# Altium footprint library PCB1.PcbLib: 58 footprints (part 2 of 4)
Each footprint in its own frame and in the unit in brackets; x right, y up, seen from the top. Pads: shape width x height; smd on the part's side, far side on the other; paste and mask are expansions set on the pad; w line width, h text height; cw(c..) or ccw(c..) is an arc to the next point about the centre after c.
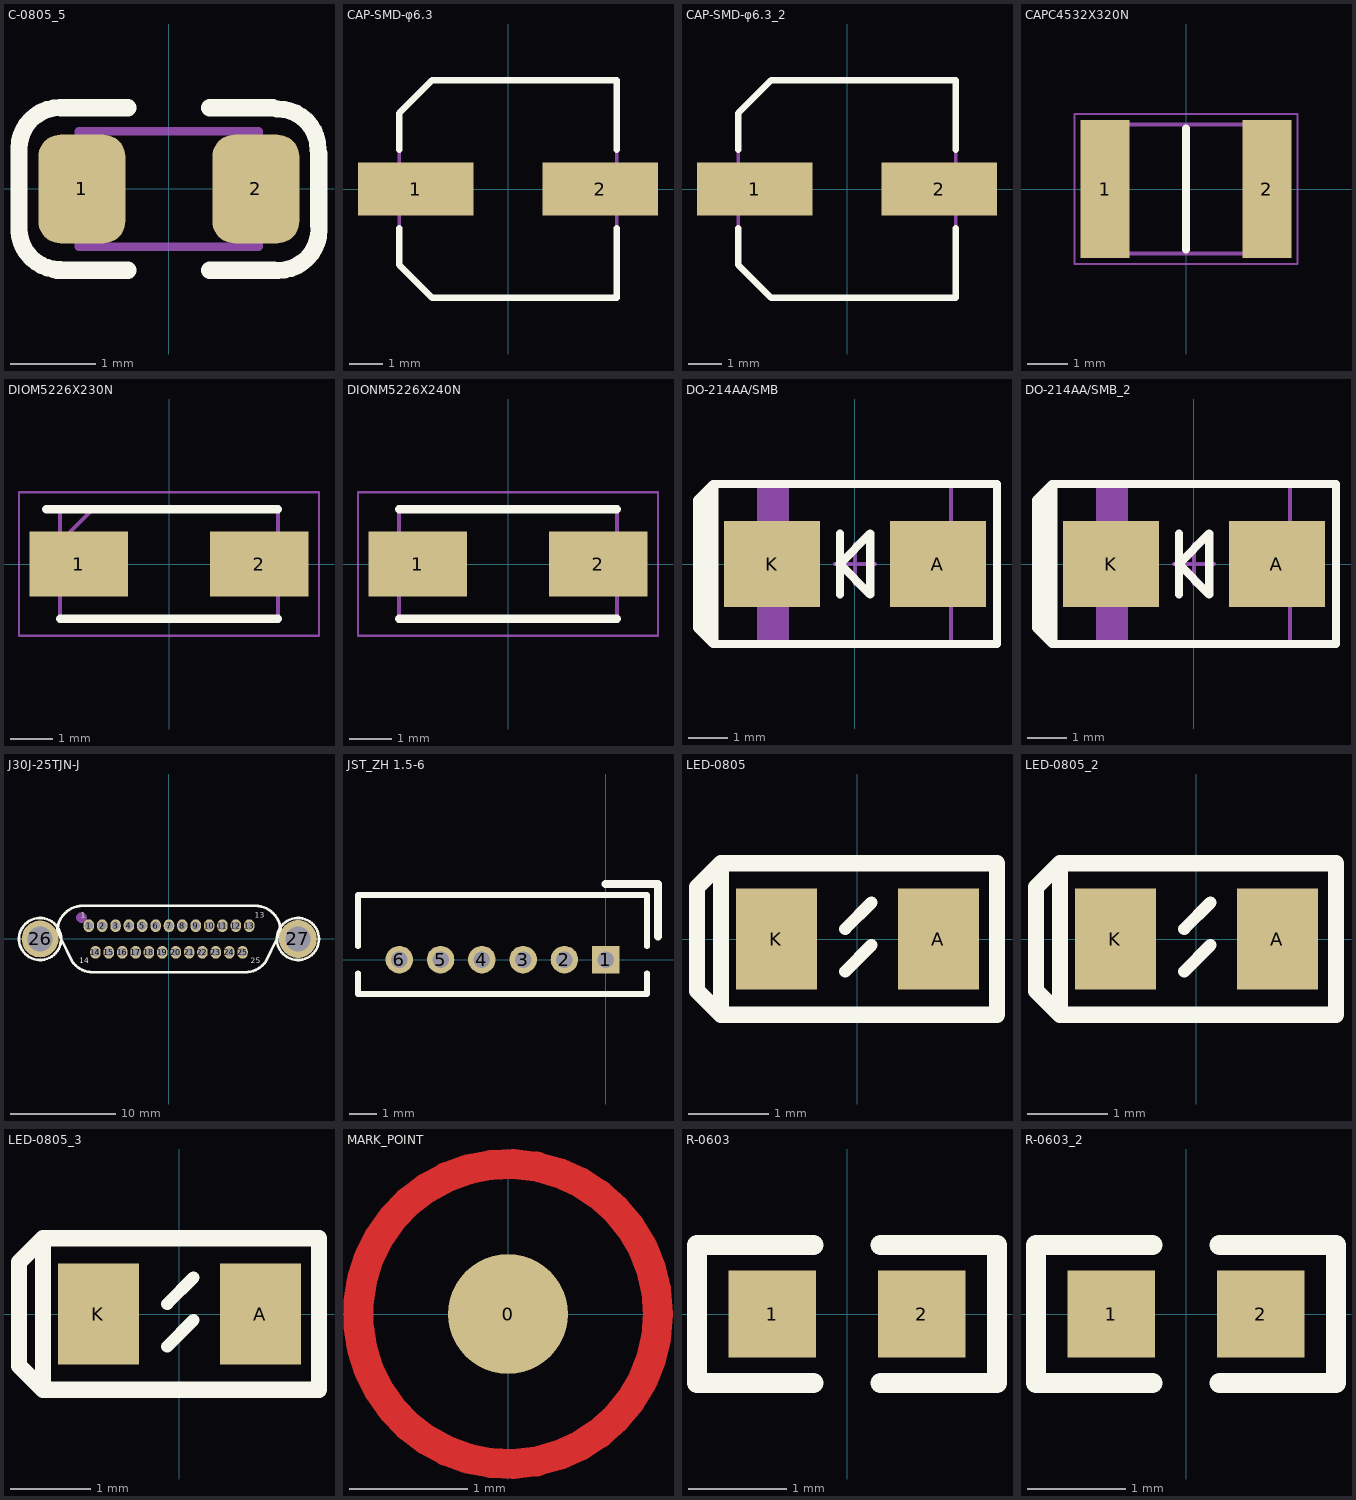
[diagram p1: the footprints below, top view; thin cyan lines are the x and y axes]

## C-0805_5 [mil]
pads (2):
  rrect50% 40x50 smd: 1(-40,0) 2(40,0)
Top Overlay:
  lines w7.87: -68.91,18.62 cw(c-50.12,18.62) -50.12,37.41 ; -68.87,-18.33 ccw(c-50.09,-18.33) -50.09,-37.12 ; 49.84,36.85 cw(c49.84,18.06) 68.63,18.06 ; 50.23,-37.41 ccw(c50.23,-18.63) 69.01,-18.63
  lines w8: -68.9,-19.96 -68.9,17.92 ; -51.46,-37.4 -18.78,-37.4 ; -49.42,37.4 -18.78,37.4 ; 18.78,-37.4 48.27,-37.4 ; 18.78,37.4 47.81,37.4 ; 68.9,-16.78 68.9,16.32
Mechanical 13:
  lines w3.94: -41.34,-26.57 -41.34,26.58 41.34,26.58 41.34,-26.57 -41.34,-26.57
3D body: height 19.68, standoff 0, extent -27.56,-26.57 27.56,26.57
3D body: height 19.68, standoff 0, extent -41.34,-26.57 -27.56,26.57
3D body: height 19.68, standoff 0, extent 27.56,-26.57 41.34,26.57

## CAP-SMD-φ6.3 [mm] "SANYO,SVP SERIES ELECTROLYTIC CAPACITORS"
height 1.6
pads (2):
  rect 3.5x1.6 smd: 1(-2.8,0) 2(2.8,0)
Top Overlay:
  lines w0.203: -3.3,-1.2 -3.3,-2.3 -2.3,-3.3 3.3,-3.3 3.3,-1.2 ; -3.3,1.2 -3.3,2.3 -2.3,3.3 3.3,3.3 3.3,1.2
Mechanical 13:
  lines w0.1: -3.3,-2.3 -3.3,2.3 -2.3,3.3 3.3,3.3 3.3,-3.3 -2.3,-3.3 -3.3,-2.3
  text "+" at -2.946,1.092 h0.89
3D body: height 5.8, standoff 0, extent -3.134,-3.152 3.141,3.135

## CAP-SMD-φ6.3_2 [mm]
pads (2):
  rect 3.5x1.6 smd: 1(-2.8,0) 2(2.8,0)
Top Overlay:
  lines w0.203: -3.3,-1.2 -3.3,-2.3 -2.3,-3.3 3.3,-3.3 3.3,-1.2 ; -3.3,1.2 -3.3,2.3 -2.3,3.3 3.3,3.3 3.3,1.2
Mechanical 13:
  lines w0.1: -3.3,-2.3 -2.3,-3.3 3.3,-3.3 3.3,3.3 -2.3,3.3 -3.3,2.3 -3.3,-2.3
  text "+" at -2.946,1.092 h0.89
3D body: height 5.8, standoff 0, extent -3.134,-3.152 3.141,3.135

## CAPC4532X320N [mm]
pads (2):
  rect 1.21x3.42 smd: 1(-2,0) 2(2,0)
Top Overlay:
  lines w0.2: 0,-1.5 0,1.5
Mechanical 13:
  lines w0.1: -2.25,-1.6 2.25,-1.6 2.25,1.6 -2.25,1.6 -2.25,-1.6
Mechanical 15:
  lines w0.05: -2.755,-1.86 2.755,-1.86 2.755,1.86 -2.755,1.86 -2.755,-1.86
3D body "HV1812Y222KXHATHV.stp": height 3.2, standoff 0, extent -2.25,-1.6 2.25,1.6

## DIOM5226X230N [mm]
pads (2):
  rect 2.35x1.55 smd: 1(-2.15,0) 2(2.15,0)
Top Overlay:
  lines w0.2: -2.925,1.302 2.598,1.302 ; -2.598,-1.302 2.598,-1.302
Mechanical 13:
  lines w0.1: -2.598,0.528 -1.822,1.302 ; -2.598,-1.302 -2.598,1.302 2.598,1.302 2.598,-1.302 -2.598,-1.302
Mechanical 15:
  lines w0.05: -3.575,-1.71 -3.575,1.71 3.575,1.71 3.575,-1.71 -3.575,-1.71
3D body "SMAJ5.0A-13-F.stp": height 2.3, standoff 0, extent -2.598,-1.302 2.598,1.302

## DIONM5226X240N [mm]
height 2
pads (2):
  rect 2.35x1.55 smd: 1(-2.15,0) 2(2.15,0)
Top Overlay:
  lines w0.2: -2.598,-1.302 2.598,-1.302 ; -2.598,1.302 2.598,1.302
Mechanical 13:
  lines w0.1: -2.598,-1.302 -2.598,1.302 2.598,1.302 2.598,-1.302 -2.598,-1.302
Mechanical 15:
  lines w0.05: -3.575,-1.71 -3.575,1.71 3.575,1.71 3.575,-1.71 -3.575,-1.71
3D body "SMAJ15CA-13-F.stp": height 2.4, standoff 0, extent -2.598,-1.302 2.598,1.302

## DO-214AA/SMB [mm] "Molded Diode, 2-Leads, Body 5.34x3.62mm, IPC Medium Density"
height 2.62
pads (2):
  rect 2.4x2.15 smd: A(2.075,0) K(-2.075,0)
Top Overlay:
  region: -3.51,2 -3.91,1.6 -3.95,1.6 -3.95,-1.6 -3.55,-2 -3.51,-2
  lines w0.203: -0.375,-0.765 -0.375,0.765 ; -3.51,-2 -3.55,-2 -3.95,-1.6 -3.95,1.6 -3.55,2 -3.51,2 ; -3.51,-2 -3.51,2 ; -3.51,-2 3.55,-2 3.55,2 -3.51,2 ; -0.38,0 0.38,0.765 0.38,-0.765 -0.38,0
Mechanical 13:
  rectangle: -2.4,-1.971 -1.648,1.969
  lines w0.1: -2.4,-1.97 -2.4,1.97 2.4,1.97 2.4,-1.97 -2.4,-1.97
Mechanical 15:
  lines w0.1: -0.5,0 0.5,0 ; 0,-0.5 0,0.5
3D body: height 2.62, standoff 0, extent -2.4,-1.97 2.4,1.97

## DO-214AA/SMB_2 [mm]
pads (2):
  rect 2.4x2.15 smd: A(2.075,0) K(-2.075,0)
Top Overlay:
  region: -3.51,2 -3.91,1.6 -3.95,1.6 -3.95,-1.6 -3.55,-2 -3.51,-2
  lines w0.203: -0.375,-0.765 -0.375,0.765 ; -3.51,-2 -3.55,-2 -3.95,-1.6 -3.95,1.6 -3.55,2 -3.51,2 ; -3.51,-2 -3.51,2 ; -3.51,-2 3.55,-2 3.55,2 -3.51,2 ; -0.38,0 0.38,0.765 0.38,-0.765 -0.38,0
Mechanical 13:
  rectangle: -2.4,-1.97 -1.648,1.97
  lines w0.1: -2.4,-1.97 -2.4,1.97 2.4,1.97 2.4,-1.97 -2.4,-1.97
Mechanical 15:
  lines w0.1: -0.5,0 0.5,0 ; 0,-0.5 0,0.5
3D body: height 2.62, standoff 0, extent -2.4,-1.97 2.4,1.97

## J30J-25TJN-J [mm]
pads (27):
  oval 1x1.2 hole 0.8 copper offset 0,0 paste-2539.97 mask+0.05: 1(-7.62,1.27) 2(-6.35,1.27) 3(-5.08,1.27) 4(-3.81,1.27) 5(-2.54,1.27) 6(-1.27,1.27) 7(0,1.27) 8(1.27,1.27) 9(2.54,1.27) 10(3.81,1.27) 11(5.08,1.27) 12(6.35,1.27) 13(7.62,1.27) 14(-6.985,-1.27) 15(-5.715,-1.27) 16(-4.445,-1.27) 17(-3.175,-1.27) 18(-1.905,-1.27) 19(-0.635,-1.27) 20(0.635,-1.27) 21(1.905,-1.27) 22(3.175,-1.27) 23(4.445,-1.27) 24(5.715,-1.27) 25(6.985,-1.27)
  round 3.5 hole 2.4 paste-2539.97 mask+0.05: 26(-12.25,0)
  round 3.6 hole 2.4 paste-2539.97 mask+0.05: 27(12.25,0)
Top Overlay:
  circle w0.254: c-12.25,0 r2
  circle w0.254: c12.25,0 r2
  lines w0.254: -10.619,0.756 -10.25,0 -9.204,-2.145 ccw(c-7.248,-0.753) -7.248,-3.153 ; -10.603,0.75 cw(c-8.203,0.75) -8.203,3.15 8.224,3.15 ; -7.375,-3.15 7.248,-3.15 ; 7.248,-3.153 ccw(c7.248,-0.753) 9.204,-2.145 10.25,0 10.615,0.747 ; 8.203,3.15 cw(c8.203,0.75) 10.603,0.75
  text "25" at 7.747,-2.286 h0.51
  text "14" at -8.509,-2.286 h0.51
  text "13" at 8.128,2.032 h0.51
  text "1" at -8.382,2.032 h0.51
Mechanical 6:
  circle w0.5: c-8.313,2.032 r0.25
3D body "User Library-J30J-25TJN-J_380-025-113L001.step": height 10, standoff -3, extent -14.85,-3.667 14.85,3.683

## JST_ZH 1.5-6 [mm]
pads (6):
  rect 1x1 hole 0.6: 1(0,0)
  round 1 hole 0.6: 2(-1.5,0) 3(-3,0) 4(-4.5,0) 5(-6,0) 6(-7.5,0)
Top Overlay:
  lines w0.203: -9,-0.493 -9,-1.25 1.5,-1.25 1.5,-0.493 ; -9,0.486 -9,2.35 1.5,2.35 1.5,0.486
  lines w0.3: -0.005,2.75 1.9,2.75 1.9,0.845
3D body "B6B-ZR.STEP": height 4.5, standoff -2.7, extent -9.009,-1.295 1.491,2.205

## LED-0805 [mil] "Molded Diode, 2-Leads, Body 1.20x0.80mm, IPC Medium Density"
height 27.56
pads (2):
  rect 40x50 smd: A(40,0) K(-40,0)
Top Overlay:
  lines w6: -6,-16 7,-3 ; -6,5 7,18
  lines w8: -67.32,-37.4 -79.13,-25.59 -79.13,25.59 -67.32,37.4 ; -67.32,-37.4 -67.32,37.4 ; -67.32,-37.4 68.9,-37.4 68.9,37.4 -67.32,37.4
3D body: height 39.37, standoff 0, extent -60,-25 60,25

## LED-0805_2 [mil]
pads (2):
  rect 40x50 smd: A(40,0) K(-40,0)
Top Overlay:
  lines w6: -6,-16 7,-3 ; -6,5 7,18
  lines w8: -67.32,-37.4 -79.13,-25.59 -79.13,25.59 -67.32,37.4 ; -67.32,-37.4 -67.32,37.4 ; -67.32,-37.4 68.9,-37.4 68.9,37.4 -67.32,37.4
3D body: height 39.37, standoff 0, extent -60,-25 60,25

## LED-0805_3 [mil]
pads (2):
  rect 40x50 smd: A(40,0) K(-40,0)
Top Overlay:
  lines w6: -6,-16 7,-3 ; -6,5 7,18
  lines w8: -67.32,-37.4 -79.13,-25.59 -79.13,25.59 -67.32,37.4 ; -67.32,-37.4 -67.32,37.4 ; -67.32,-37.4 68.9,-37.4 68.9,37.4 -67.32,37.4
3D body: height 39.37, standoff 0, extent -60,-25 60,25

## MARK_POINT [mil]
height 236.22
pads (1):
  round 40 smd: 0(0,0)
Top Layer:
  circle w10: c0,0 r50
Top Solder:
  circle w20: c0,0 r30

## R-0603 [mil] "Chip Resistor, 2-Leads, Body 1.60x0.80mm, IPC Medium Density"
height 17.72
pads (2):
  rect 35x35 smd: 1(-30,0) 2(30,0)
Top Overlay:
  lines w8: -13.36,-27.56 -60,-27.56 -60,27.56 -13.36,27.56 ; 13.36,-27.56 60,-27.56 60,27.56 13.36,27.56

## R-0603_2 [mil]
pads (2):
  rect 35x35 smd: 1(-30,0) 2(30,0)
Top Overlay:
  lines w8: -13.36,-27.56 -60,-27.56 -60,27.56 -13.36,27.56 ; 13.36,-27.56 60,-27.56 60,27.56 13.36,27.56